# Altium schematic symbol library IC_M211.SchLib: 1 symbol
Pins are listed as number, name and electrical type; pins without a type are passive.

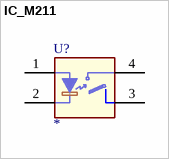
[diagram p0: symbol IC_M211]

## IC_M211
designator U?
pins: 1 A, 2 K, 3 Sa, 4 Sb